# Altium schematic symbol library LED.SchLib: 4 symbols
Pins are listed as number, name and electrical type; pins without a type are passive.

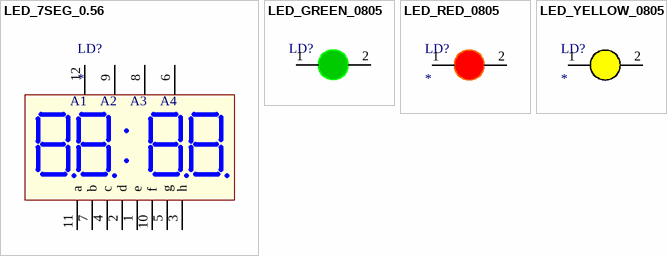
[diagram p0: symbols LED_7SEG_0.56 to LED_YELLOW_0805]

## LED_7SEG_0.56
designator LD?
footprint LED 7x4 0.56
pins: 1 e, 2 d, 3 h, 4 c, 5 g, 6 V4, 7 b, 8 V3, 9 V2, 10 f, 11 a, 12 V1
text: A1; A2; A3; A4

## LED_GREEN_0805
designator LD?  (value not drawn)
footprint LED-0805-Green
pins: 1 A, 2 K

## LED_RED_0805
designator LD?
footprint LED-0805-Red
pins: 1 A, 2 K

## LED_YELLOW_0805
designator LD?
footprint LED-0805-Yellow
pins: 1 A, 2 K